# Altium footprint library PcbLib1.PcbLib: 1 footprints
Each footprint in its own frame and in the unit in brackets; x right, y up, seen from the top. Pads: shape width x height; smd on the part's side, far side on the other; paste and mask are expansions set on the pad; w line width, h text height; cw(c..) or ccw(c..) is an arc to the next point about the centre after c.
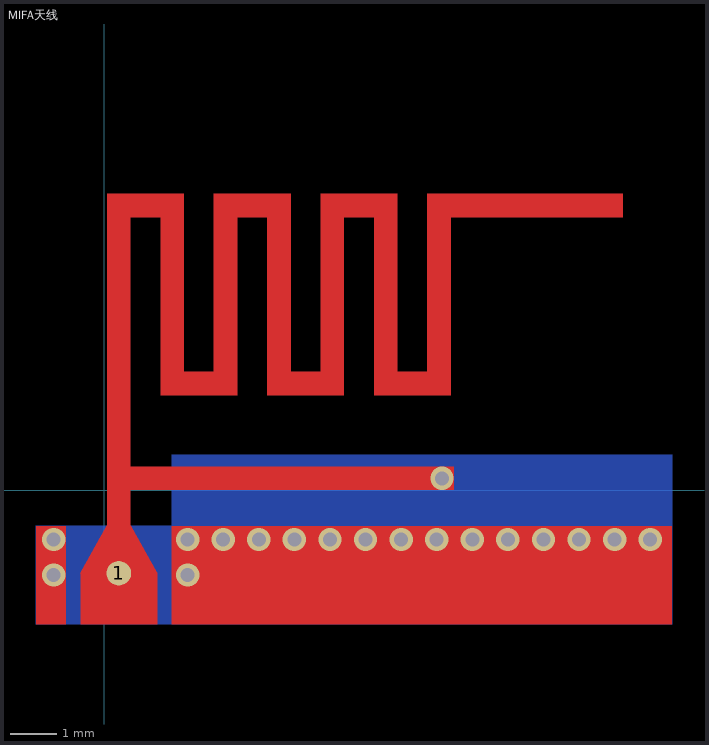
[diagram p0: the footprint, top view; thin cyan lines are the x and y axes]

## MIFA天线 [mil] "蛇形倒F天线"
pads (1):
  round 20.87 smd paste+0: 1(12.5,-70)
via 460.5,-41.5 diameter 19.68 hole 11.81
via 430.5,-41.5 diameter 19.68 hole 11.81
via 400.5,-41.5 diameter 19.68 hole 11.81
via 370.5,-41.5 diameter 19.68 hole 11.81
via 340.5,-41.5 diameter 19.68 hole 11.81
via -42.5,-71.5 diameter 19.68 hole 11.81
via 285,10 diameter 19.68 hole 11.81
via -42.5,-41.5 diameter 19.68 hole 11.81
via 70.5,-71.5 diameter 19.68 hole 11.81
via 70.5,-41.5 diameter 19.68 hole 11.81
via 100.5,-41.5 diameter 19.68 hole 11.81
via 130.5,-41.5 diameter 19.68 hole 11.81
via 160.5,-41.5 diameter 19.68 hole 11.81
via 190.5,-41.5 diameter 19.68 hole 11.81
via 220.5,-41.5 diameter 19.68 hole 11.81
via 250.5,-41.5 diameter 19.68 hole 11.81
via 280.5,-41.5 diameter 19.68 hole 11.81
via 310.5,-41.5 diameter 19.68 hole 11.81
Top Layer:
  rectangle: -57.5,-113 -32,-30
  rectangle: 57,-113 479,-30
  region: -20,-69.5 -20,-113 45,-113 45,-69.5
  region: 247.5,250 227.5,250 227.5,80 247.5,80
  region: 182.5,250 182.5,230 247.5,230 247.5,250
  region: 227.5,100 227.5,80 292.5,80 292.5,100
  region: 292.5,250 272.5,250 272.5,80 292.5,80
  region: 67.5,250 47.5,250 47.5,80 67.5,80
  region: 295,0 295,20 22,20 22,0
  region: 22.5,250 2.5,250 2.5,-30.5 22.5,-30.5
  region: 2.5,250 2.5,230 67.5,230 67.5,250
  region: 47.5,100 47.5,80 112.5,80 112.5,100
  region: 112.5,250 92.5,250 92.5,80 112.5,80
  region: 202.5,250 182.5,250 182.5,80 202.5,80
  region: 137.5,100 137.5,80 202.5,80 202.5,100
  region: 92.5,250 92.5,230 157.5,230 157.5,250
  region: 157.5,250 137.5,250 137.5,80 157.5,80
  region: 272.5,250 272.5,230 437.5,230 437.5,250
  region: 2.5,-30 -20,-70 45,-70 22.5,-30
Bottom Layer:
  region: -57.5,-30 57,-30 57,30 479,30 479,-113 -57.5,-113
Top Solder:
  region: 227.5,100 227.5,80 292.5,80 292.5,100
  region: 112.5,250 92.5,250 92.5,80 112.5,80
  region: 202.5,250 182.5,250 182.5,80 202.5,80
  region: 292.5,250 272.5,250 272.5,80 292.5,80
  region: 247.5,250 227.5,250 227.5,80 247.5,80
  region: 22.5,250 2.5,250 2.5,-30 22.5,-30
  region: 137.5,100 137.5,80 202.5,80 202.5,100
  region: 47.5,100 47.5,80 112.5,80 112.5,100
  region: 92.5,250 92.5,230 157.5,230 157.5,250
  region: 2.5,250 2.5,230 67.5,230 67.5,250
  region: 182.5,250 182.5,230 247.5,230 247.5,250
  region: 272.5,250 272.5,230 437.5,230 437.5,250
  region: 157.5,250 137.5,250 137.5,80 157.5,80
  region: 67.5,250 47.5,250 47.5,80 67.5,80
  region: 295,0 295,20 22,20 22,0
  region: 2.5,-30
Multi-Layer:
  region: 2.5,-30